# EAGLE library part FT2232D (library jt-ftdi)
FTDI FT2232D dual USB UART
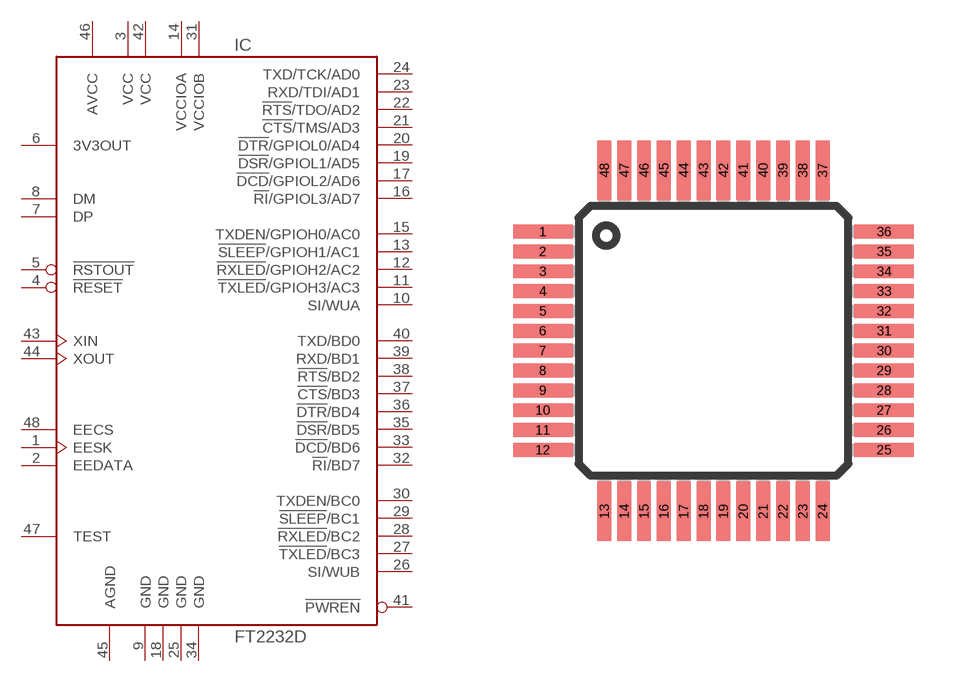
[diagram p1: symbol with the pads of PQFP48; footprint PQFP48]

Designator prefix IC

## FT2232D  [PQFP48]
1  EESK  out
2  EEDATA
3  VCC  pwr
4  !RESET  in
5  !RSTOUT  out
6  3V3OUT
7  DP
8  DM
9  GND  pwr
10  SI/WUA
11  !TXLED!/GPIOH3/AC3
12  !RXLED!/GPIOH2/AC2
13  !SLEEP!/GPIOH1/AC1
14  VCCIOA  pwr
15  TXDEN/GPIOH0/AC0
16  !RI!/GPIOL3/AD7
17  !DCD!/GPIOL2/AD6
18  GND  pwr
19  !DSR!/GPIOL1/AD5
20  !DTR!/GPIOL0/AD4
21  !CTS!/TMS/AD3
22  !RTS!/TDO/AD2
23  RXD/TDI/AD1
24  TXD/TCK/AD0
25  GND  pwr
26  SI/WUB
27  !TXLED!/BC3
28  !RXLED!/BC2
29  !SLEEP!/BC1
30  TXDEN/BC0
31  VCCIOB  pwr
32  !RI!/BD7
33  !DCD!/BD6
34  GND  pwr
35  !DSR!/BD5
36  !DTR!/BD4
37  !CTS!/BD3
38  !RTS!/BD2
39  RXD/BD1
40  TXD/BD0
41  !PWREN  out
42  VCC  pwr
43  XIN
44  XOUT
45  AGND  pwr
46  AVCC  pwr
47  TEST  in
48  EECS

## Footprint PQFP48 (pad centres in mm)
Platic Quad Flat Package
smd 1.5 x 0.35: 1 -4.3,2.75; 2 -4.3,2.25; 3 -4.3,1.75; 4 -4.3,1.25; 5 -4.3,0.75; 6 -4.3,0.25; 7 -4.3,-0.25; 8 -4.3,-0.75; 9 -4.3,-1.25; 10 -4.3,-1.75; 11 -4.3,-2.25; 12 -4.3,-2.75; 25 4.3,-2.75; 26 4.3,-2.25; 27 4.3,-1.75; 28 4.3,-1.25; 29 4.3,-0.75; 30 4.3,-0.25; 31 4.3,0.25; 32 4.3,0.75; 33 4.3,1.25; 34 4.3,1.75; 35 4.3,2.25; 36 4.3,2.75
smd 0.35 x 1.5: 13 -2.75,-4.3; 14 -2.25,-4.3; 15 -1.75,-4.3; 16 -1.25,-4.3; 17 -0.75,-4.3; 18 -0.25,-4.3; 19 0.25,-4.3; 20 0.75,-4.3; 21 1.25,-4.3; 22 1.75,-4.3; 23 2.25,-4.3; 24 2.75,-4.3; 37 2.75,4.3; 38 2.25,4.3; 39 1.75,4.3; 40 1.25,4.3; 41 0.75,4.3; 42 0.25,4.3; 43 -0.25,4.3; 44 -0.75,4.3; 45 -1.25,4.3; 46 -1.75,4.3; 47 -2.25,4.3; 48 -2.75,4.3